# Altium footprint library ife18_TS_BMS_LTC6813_v2_Library.PcbLib: 15 footprints
Each footprint in its own frame and in the unit in brackets; x right, y up, seen from the top. Pads: shape width x height; smd on the part's side, far side on the other; paste and mask are expansions set on the pad; w line width, h text height; cw(c..) or ccw(c..) is an arc to the next point about the centre after c.
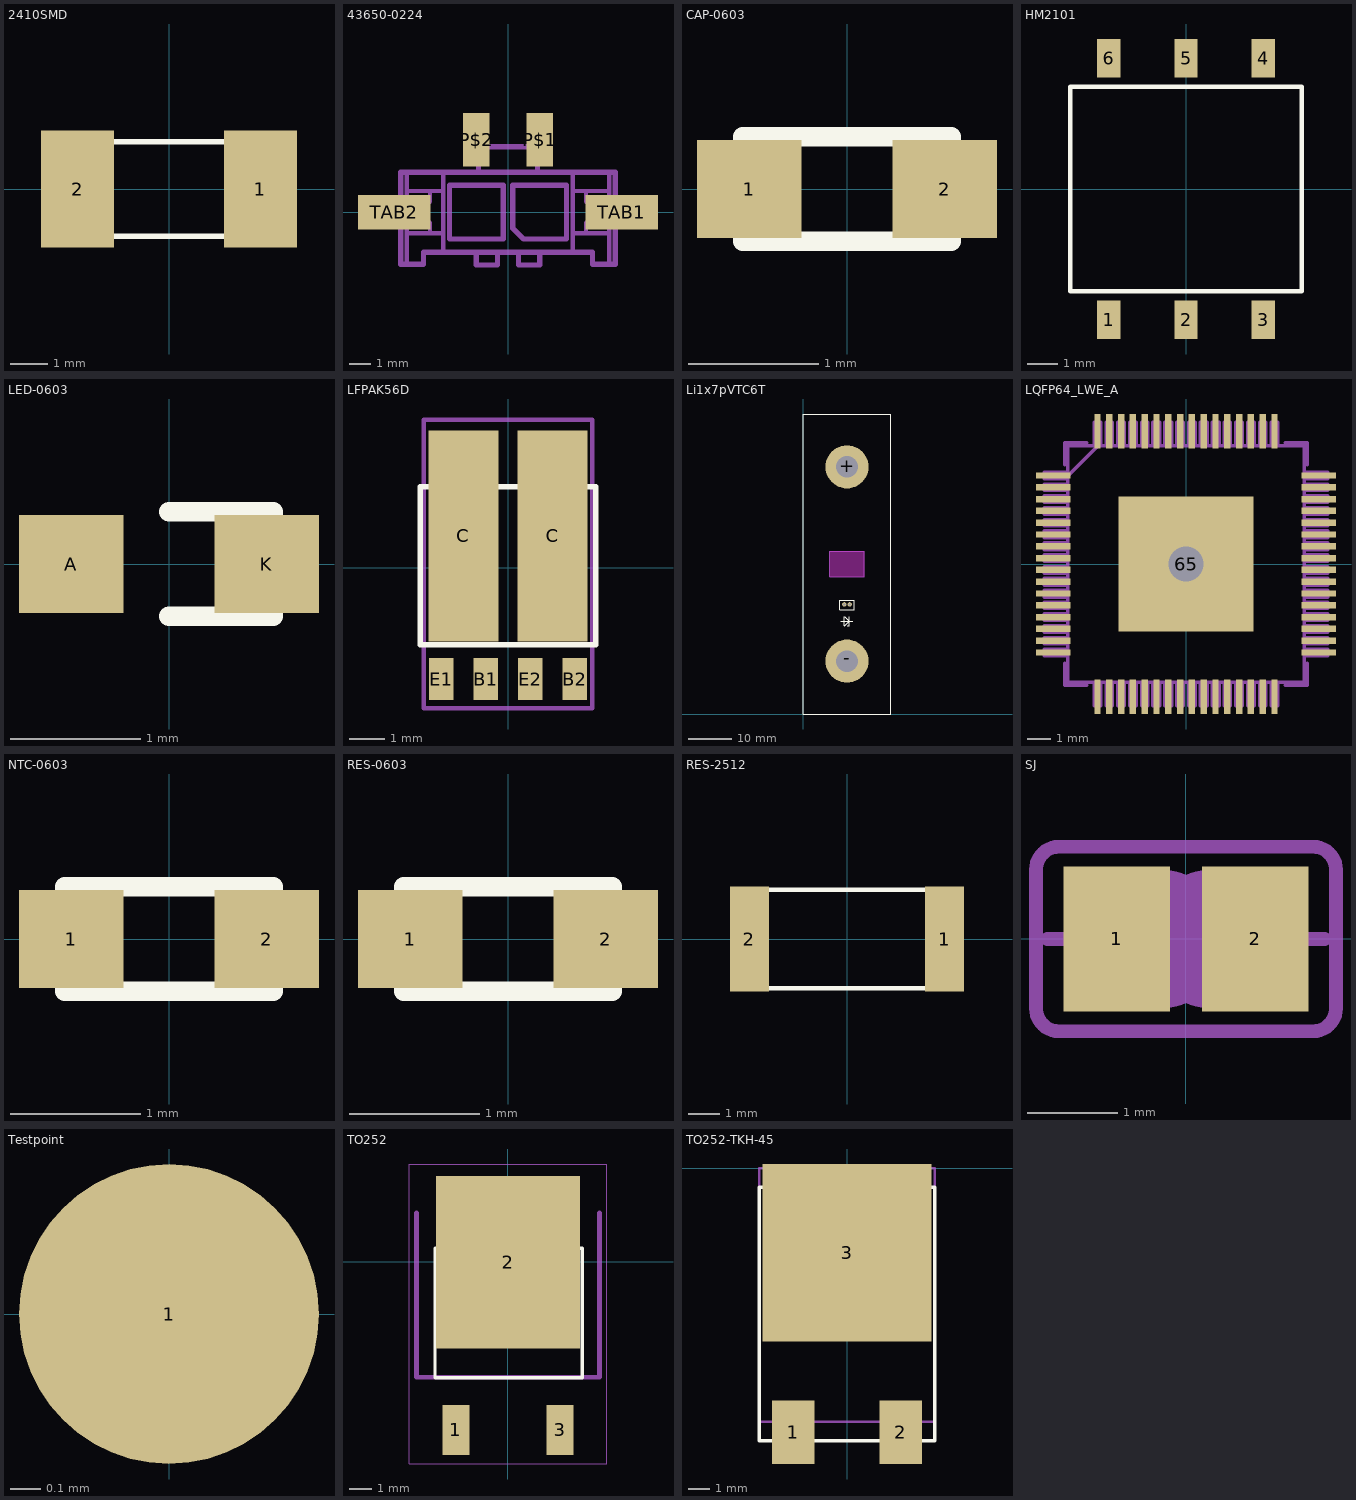
[diagram p0: the footprints below, top view; thin cyan lines are the x and y axes]

## 2410SMD [mm]
pads (2):
  rect 1.96x3.15 smd: 1(2.455,0) 2(-2.455,0)
Top Overlay:
  lines w0.15: -3.05,-1.27 3.05,-1.27 3.05,1.27 -3.05,1.27 -3.05,-1.27
3D body "0679H1000-xx.stp": height 2.58, standoff 0.04, extent -3.05,-1.27 3.05,1.27

## 43650-0224 [mm]
pads (4):
  rect 1.27x2.54 smd: P$1(1.5,3.43) P$2(-1.5,3.43)
  rect 3.43x1.65 smd: TAB1(5.39,0) TAB2(-5.39,0)
Mechanical 22:
  lines w0.2: -4.8,-2.47 -4.8,-1 ; -4.8,1.9 -4.8,1 ; -3.07,-1.9 -3.07,-1 ; -3.07,1.9 -3.07,1 ; 3.07,-1.9 3.07,-1 ; 3.07,1.9 3.07,1 ; 4.8,-2.47 4.8,-1 ; 4.8,1.9 4.8,1 ; -4.8,-1 -4.8,1 ; -4.8,-1 -3.7,-1 ; -4.8,1 -3.7,1 ; -3.7,-1 -3.07,-1 ; -3.7,-1 -3.7,-0.5 -4,-0.5 -4,0.5 -3.7,0.5 -3.7,1 ; -3.7,1 -3.07,1 ; -3.07,-1 -3.07,1 ; 3.07,-1 3.07,1 ; 3.07,-1 3.7,-1 ; 3.07,1 3.7,1 ; 3.7,-1 4.8,-1 ; 3.7,-1 3.7,-0.5 4,-0.5 4,0.5 3.7,0.5 3.7,1 ; 3.7,1 4.8,1 ; 4.8,-1 4.8,1
  lines w0.254: -1.5,-1.9 -0.5,-1.9 ; -1.5,-1.9 -3.07,-1.9 -4,-1.9 -4,-2.47 -4.8,-2.47 -5.075,-2.47 -5.075,1.9 -4.8,1.9 -3.07,1.9 -1.4,1.9 ; -1.5,-1.9 -1.5,-2.5 -0.5,-2.5 -0.5,-1.9 ; -1.4,1.9 1.4,1.9 ; -1.4,1.9 -1.4,3.1 1.4,3.1 1.4,1.9 ; -0.5,-1.9 0.5,-1.9 ; 0.5,-1.9 1.5,-1.9 ; 0.5,-1.9 0.5,-2.5 1.5,-2.5 1.5,-1.9 ; 1.4,1.9 3.07,1.9 4.8,1.9 5.075,1.9 5.075,-2.47 4.8,-2.47 4,-2.47 4,-1.9 3.07,-1.9 1.5,-1.9 ; -2.77,-1.27 -0.23,-1.27 -0.23,1.27 -2.77,1.27 -2.77,-1.27 ; 0.23,-0.762 0.23,1.27 2.77,1.27 2.77,-1.27 0.738,-1.27 0.23,-0.762
3D body "436500224.stp": height 9.95, standoff 0.02, extent -6.825,-2.47 6.825,4.1

## CAP-0603 [mm]
pads (2):
  rect 0.8x0.75 smd: 1(-0.75,0) 2(0.75,0)
Top Overlay:
  lines w0.15: -0.8,-0.4 -0.8,0.4 0.8,0.4 0.8,-0.4 -0.8,-0.4
3D body "CAP 0603.STEP": height 0.81, standoff -0.01, extent -0.8,-0.4 0.8,0.424

## HM2101 [mm]
pads (6):
  rect 0.76x1.27 smd: 1(-2.54,-4.3) 2(0,-4.3) 3(2.54,-4.3) 4(2.54,4.3) 5(0,4.3) 6(-2.54,4.3)
Top Overlay:
  lines w0.15: -3.81,-3.365 3.81,-3.365 3.81,3.365 -3.81,3.365 -3.81,-3.365
3D body "HM2101NL_3D.STEP": height 5.71, standoff -0.02, extent -3.81,-4.445 3.81,4.445

## LED-0603 [mm]
pads (2):
  rect 0.8x0.75 smd: A(-0.75,0) K(0.75,0)
Top Overlay:
  lines w0.15: 0,-0.4 0.8,-0.4 0.8,0.4 0,0.4
3D body "LED 0603 Lens BLUE.STEP": height 0.53, standoff 0.18, extent -0.55,-0.4 0.55,0.4
3D body "LED 0603 Base BLUE.STEP": height 0.28, standoff 0, extent -0.8,-0.4 0.8,0.4

## LFPAK56D [mm]
pads (6):
  rect 0.7x1.2 smd: B1(-0.635,-3.175) B2(1.905,-3.175) E1(-1.905,-3.175) E2(0.635,-3.175)
  rect 2x6 smd: C(-1.27,0.9) C(1.27,0.9)
Top Overlay:
  lines w0.15: -2.5,-2.2 -2.5,2.3 2.5,2.3 2.5,-2.2 -2.5,-2.2
Mechanical 22:
  lines w0.127: -2.4,-4 2.4,-4 2.4,4.2 -2.4,4.2 -2.4,-4
3D body "SOT1205.step": height 1.06, standoff -0.04, extent -2.55,-3.449 2.55,2.711

## Li1x7pVTC6T [mm]
pads (4):
  round 10 hole 5: +(10.15,57.25) -(10.15,12.25)
  round 1 hole 0.5: T+(10.775,25.4) T-(9.525,25.4)
Top Overlay:
  lines w0.15: 8.75,21.5 11.5,21.5 ; 10.25,20.5 10.637,20.5 10.637,22.5 10.637,21.5 ; 9.5,21.5 9.5,22.5 9.637,22.5 10.637,21.5 ; 9.5,21.5 9.5,20.5 9.637,20.5 10.637,21.5 ; 9.5,21.5 10.637,21.5 ; 0,0 20.3,0 20.3,69.5 0,69.5 0,0 ; 8.525,24.15 8.525,26.35 11.775,26.35 11.775,24.15 8.525,24.15
Keep-Out Layer:
  board cut-out: 6.15,37.75 14.15,37.75 14.15,31.75 6.15,31.75
Mechanical 1:
  lines w0.15: 6.15,31.75 14.15,31.75 14.15,37.75 6.15,37.75 6.15,31.75
3D body "ife19_accu_P_EnergusLi7pT_CFD.SLDPRT": height -4.8, standoff -146.1, extent 0,0 20.3,69.5

## LQFP64_LWE_A [mm]
pads (65):
  rect 1.461x0.27 smd: 1(-5.625,3.75) 2(-5.625,3.25) 3(-5.625,2.75) 4(-5.625,2.25) 5(-5.625,1.75) 6(-5.625,1.25) 7(-5.625,0.75) 8(-5.625,0.25) 9(-5.625,-0.25) 10(-5.625,-0.75) 11(-5.625,-1.25) 12(-5.625,-1.75) 13(-5.625,-2.25) 14(-5.625,-2.75) 15(-5.625,-3.25) 16(-5.625,-3.75) 33(5.625,-3.75) 34(5.625,-3.25) 35(5.625,-2.75) 36(5.625,-2.25) 37(5.625,-1.75) 38(5.625,-1.25) 39(5.625,-0.75) 40(5.625,-0.25) 41(5.625,0.25) 42(5.625,0.75) 43(5.625,1.25) 44(5.625,1.75) 45(5.625,2.25) 46(5.625,2.75) 47(5.625,3.25) 48(5.625,3.75)
  rect 0.27x1.461 smd: 17(-3.75,-5.625) 18(-3.25,-5.625) 19(-2.75,-5.625) 20(-2.25,-5.625) 21(-1.75,-5.625) 22(-1.25,-5.625) 23(-0.75,-5.625) 24(-0.25,-5.625) 25(0.25,-5.625) 26(0.75,-5.625) 27(1.25,-5.625) 28(1.75,-5.625) 29(2.25,-5.625) 30(2.75,-5.625) 31(3.25,-5.625) 32(3.75,-5.625) 49(3.75,5.625) 50(3.25,5.625) 51(2.75,5.625) 52(2.25,5.625) 53(1.75,5.625) 54(1.25,5.625) 55(0.75,5.625) 56(0.25,5.625) 57(-0.25,5.625) 58(-0.75,5.625) 59(-1.25,5.625) 60(-1.75,5.625) 61(-2.25,5.625) 62(-2.75,5.625) 63(-3.25,5.625) 64(-3.75,5.625)
  rect 5.74x5.74 smd paste+0: 65(0,0)
via 0,0 diameter 2 hole 1.5
Mechanical 8:
  drawing of 263 lines, arcs and shapes, not listed
Mechanical 22:
  region: 0,0 0.254,0 0.254,0.254 0,0.254
  region: 0,0 0.254,0 0.254,0.254 0,0.254
  region: 0,0 0.254,0 0.254,0.254 0,0.254
  region: 0,0 0.254,0 0.254,0.254 0,0.254
  region: 0,0 0.254,0 0.254,0.254 0,0.254
  region: 0,0 0.254,0 0.254,0.254 0,0.254
  lines w0.152: -5.131,-4.216 -5.131,-5.131 -4.216,-5.131 ; -5.131,4.216 -5.131,5.131 -4.216,5.131 ; 4.216,-5.131 5.131,-5.131 5.131,-4.216 ; 4.216,5.131 5.131,5.131 5.131,4.216
3D body "LQFP64 v1.step": height 1.6, standoff 0.02, extent -6.069,-6.069 6.069,6.069

## NTC-0603 [mm]
pads (2):
  rect 0.8x0.75 smd: 1(-0.75,0) 2(0.75,0)
Top Overlay:
  lines w0.15: -0.8,-0.4 0.8,-0.4 0.8,0.4 -0.8,0.4 -0.8,-0.4
3D body "NTC 0603.STEP": height 0.81, standoff -0.01, extent -0.8,-0.4 0.8,0.424

## RES-0603 [mm]
pads (2):
  rect 0.8x0.75 smd: 1(-0.75,0) 2(0.75,0)
Top Overlay:
  lines w0.15: -0.8,-0.4 -0.8,0.4 0.8,0.4 0.8,-0.4 -0.8,-0.4
3D body "RES 0603.STEP": height 0.44, standoff -0.01, extent -0.8,-0.4 0.8,0.4

## RES-2512 [mm]
pads (2):
  rect 1.25x3.35 smd: 1(3.125,0) 2(-3.125,0)
Top Overlay:
  lines w0.15: -3.15,-1.575 -3.15,1.575 3.15,1.575 3.15,-1.575 -3.15,-1.575
3D body "RES2512.stp": height 0.55, standoff 0, extent -3.15,-1.55 3.15,1.55

## SJ [mil]
pads (2):
  rect 46x63 smd: 1(-30,0) 2(30,0)
Top Solder:
  region: -3,-36 -3,36 3,36 3,-36
Mechanical 3:
  lines w6: -60,0 -40,0 ; 40,0 60,0
  lines w50: -10,-5 cw(c-10,0) -10,5 ; 10,-5 ccw(c10,0) 10,5
Mechanical 7:
  lines w6: -65,-30 ccw(c-55,-30) -55,-40 55,-40 ccw(c55,-30) 65,-30 65,30 ccw(c55,30) 55,40 -55,40 ccw(c-55,30) -65,30 -65,-30

## Testpoint [mm]
pads (1):
  round 1 smd: 1(0,0)

## TO252 [mm]
pads (3):
  rect 1.2x2.2 smd: 1(-2.279,-7.409) 3(2.321,-7.409)
  rect 6.35x7.62 smd: 2(0.021,-0.009)
Top Overlay:
  lines w0.15: -3.2,-5.1 -3.2,0.6 3.3,0.6 3.3,-5.1 -3.2,-5.1
Mechanical 8:
  region: 0,0 0.254,0 0.254,0.254 0,0.254
  lines w0.203: -2.544,2.176 -2.544,2.709 -2.087,3.166 2.129,3.166 2.586,2.709 2.586,2.176 -2.544,2.176
Mechanical 22:
  lines w0.203: -4.018,2.176 -4.018,-5.089 4.06,-5.089 4.06,2.176
Mechanical 30:
  lines w0.051: -4.333,-8.913 4.375,-8.913 4.375,4.323 -4.333,4.323 -4.333,-8.913
3D body "TO252 Gehäuse.step": height 2.3, standoff -0.05, extent -3.225,-7.29 3.275,1.41

## TO252-TKH-45 [mm]
pads (3):
  rect 2x3 smd: 1(-2.55,-12.5) 2(2.55,-12.5)
  rect 8x8.4 smd: 3(0,-4)
Top Overlay:
  lines w0.15: -4.15,-12.9 4.15,-12.9 4.15,-0.9 -4.15,-0.9 -4.15,-12.9
Mechanical 22:
  lines w0.127: -4.15,-12 -4.15,0 4.15,0 4.15,-0.85 4.15,-12 4,-12 -4.15,-12
3D body "TKH45PR050JE-TR.stp": height 0.89, standoff -0.02, extent -4.15,-12.908 4.15,-0.908